# Altium schematic symbol library SSD1306.SchLib: 1 symbol
Pins are listed as number, name and electrical type; pins without a type are passive.

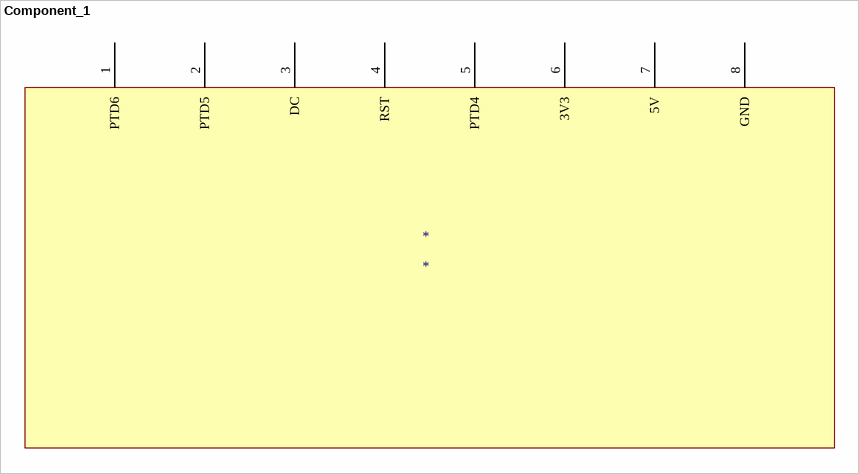
[diagram p0: symbol Component_1]

## Component_1
designator *
pins: 1 PTD6, 2 PTD5, 3 DC, 4 RST, 5 PTD4, 6 3V3, 7 5V, 8 GND